# EAGLE library part SWS004 (library dip_switches)
SMD Dip Switch 4 pol.
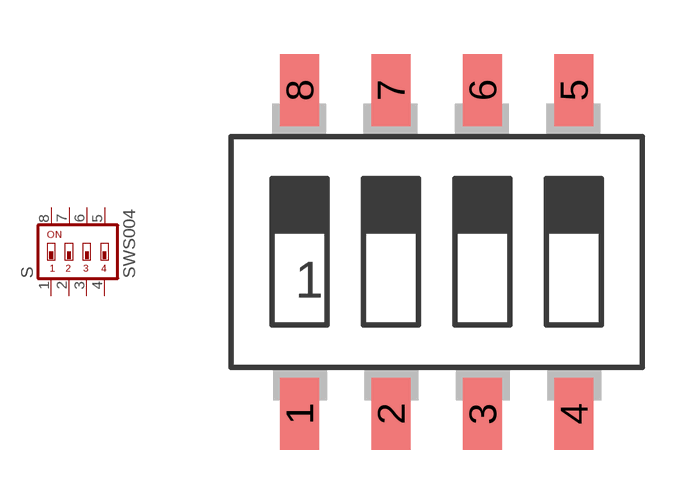
[diagram p6: symbol with the pads of SMS-004; footprint SMS-004]

Designator prefix S

## SWS004  [SMS-004]
1  1  pas
2  2  pas
3  3  pas
4  4  pas
5  5  pas
6  6  pas
7  7  pas
8  8  pas

## Footprint SMS-004 (pad centres in mm)
DIP SWITCH
smd 1.092 x 2.007: 1 -3.81,-4.496; 2 -1.27,-4.496; 3 1.27,-4.496; 4 3.81,-4.496; 5 3.81,4.496; 6 1.27,4.496; 7 -1.27,4.496; 8 -3.81,4.496